# EAGLE library part AP3032KTR-G1 (library AP3032KTR-G1)
DiodesZetex AP3032KTR-G1, Step Up DC-DC Converter, Adjustable, Maximum of 38 V, 6-Pin SOT-23 Source: Datasheet <https://www.diodes.com/assets/Datasheets/AP3032.pdf>
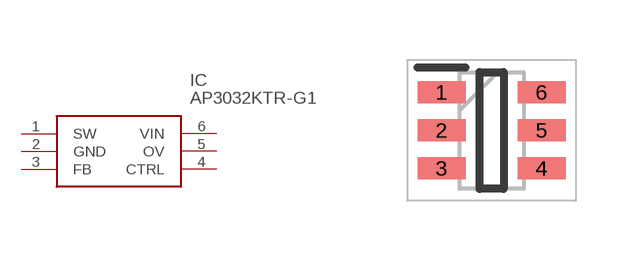
[diagram p0: symbol with the pads of SOT95P280X145-6N; footprint SOT95P280X145-6N]

Designator prefix IC

## AP3032KTR-G1 (Description: DiodesZetex AP3032KTR-G1, Step Up DC-DC Converter, Adjustable, Maximum of 38 V, 6-Pin SOT-23; Height: 1.45mm; Manufacturer_Name: Diodes Inc.; Manufacturer_Part_Number: AP3032KTR-G1; Mouser_Part_Number: 621-AP3032KTR-G1; Mouser_Price-Stock: https://www.mouser.co.uk/ProductDetail/Diodes-Incorporated/AP3032KTR-G1?qs=x6A8l6qLYDBKP%252BiASla%2FZw%3D%3D)  [SOT95P280X145-6N]
1  SW
2  GND
3  FB
4  CTRL
5  OV
6  VIN

## Footprint SOT95P280X145-6N (pad centres in mm)
SOT-23-6
smd 1.2 x 0.55: 1 -1.25,0.95; 2 -1.25,0; 3 -1.25,-0.95; 4 1.25,-0.95; 5 1.25,0; 6 1.25,0.95